# EAGLE library part MCP3553-E/SN (library SquantorMicrochip)
IC ADC 22BIT 2.7V 1CH SPI ,SOIC-8
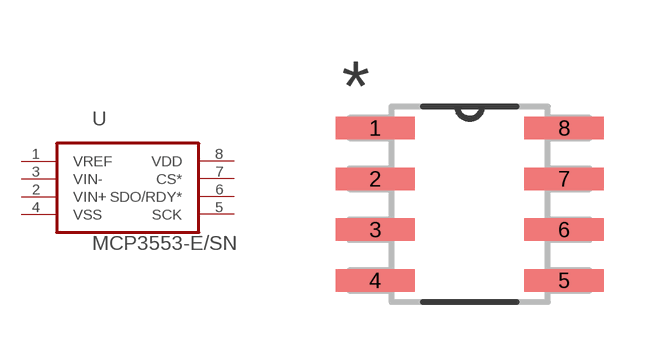
[diagram p0: symbol with the pads of SOIC127P600X175-8N; footprint SOIC127P600X175-8N]

Designator prefix U

## MCP3553-E/SN (MPN: MCP3553-E/SN; OC_FARNELL: 1605569; OC_NEWARK: 56K7004; PACKAGE: SOIC-8; SUPPLIER: Microchip)  [SOIC127P600X175-8N]
1  VREF  in
2  VIN+  in
3  VIN-  in
4  VSS  pas
5  SCK  in
6  SDO/RDY*  out
7  CS*  in
8  VDD  pwr

## Footprint SOIC127P600X175-8N (pad centres in mm)
smd 1.981 x 0.559: 1 -2.362,1.905; 2 -2.362,0.635; 3 -2.362,-0.635; 4 -2.362,-1.905; 5 2.362,-1.905; 6 2.362,-0.635; 7 2.362,0.635; 8 2.362,1.905